# EAGLE library part ADSP_BF531 (library DAC)
ADSP BF531 Auto generated by make-symbol-device-package-bsdl.ulp Rev. 8 Source: 33170285923617ADSP_BF531_mbga.bsdl
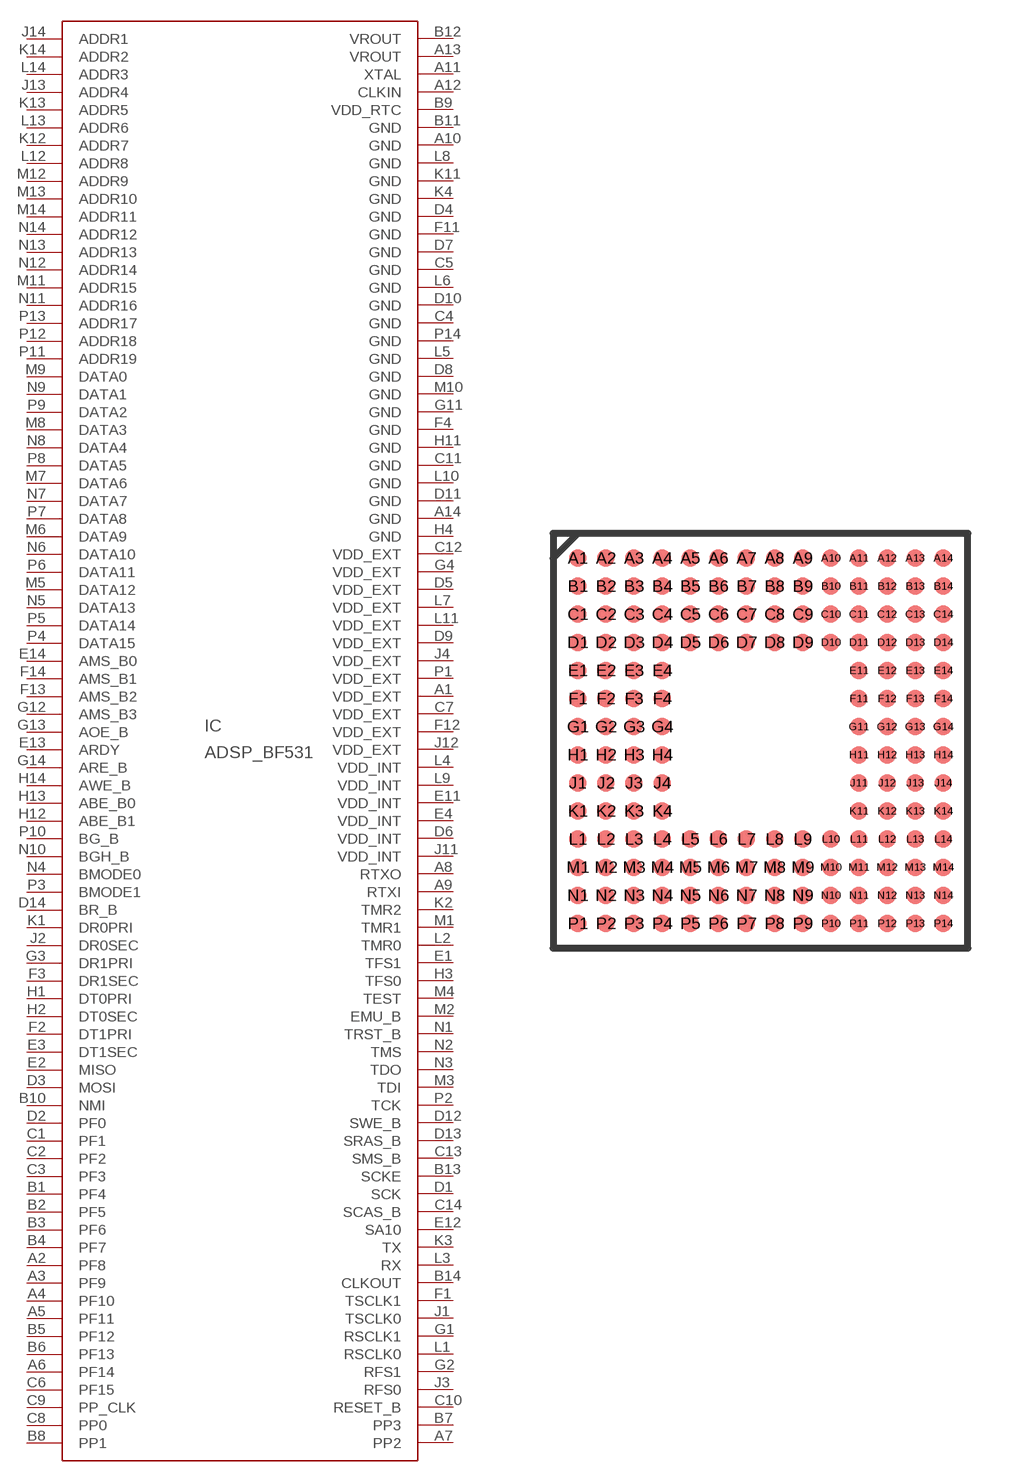
[diagram p29: symbol with the pads of MBGA_160; footprint MBGA_160]

Designator prefix IC

## ADSP_BF531 (OC_FARNELL: unknown; OC_NEWARK: unknown)  [MBGA_160]
A1  VDD_EXT  pwr
A2  PF8
A3  PF9
A4  PF10
A5  PF11
A6  PF14
A7  PP2
A8  RTXO  pwr
A9  RTXI  pwr
A10  GND  pwr
A11  XTAL  pwr
A12  CLKIN  pwr
A13  VROUT  pwr
A14  GND  pwr
B1  PF4
B2  PF5
B3  PF6
B4  PF7
B5  PF12
B6  PF13
B7  PP3
B8  PP1
B9  VDD_RTC  pwr
B10  NMI  in
B11  GND  pwr
B12  VROUT  pwr
B13  SCKE  out
B14  CLKOUT  out
C1  PF1
C2  PF2
C3  PF3
C4  GND  pwr
C5  GND  pwr
C6  PF15
C7  VDD_EXT  pwr
C8  PP0
C9  PP_CLK  in
C10  RESET_B  in
C11  GND  pwr
C12  VDD_EXT  pwr
C13  SMS_B  out
C14  SCAS_B  out
D1  SCK
D2  PF0
D3  MOSI
D4  GND  pwr
D5  VDD_EXT  pwr
D6  VDD_INT  pwr
D7  GND  pwr
D8  GND  pwr
D9  VDD_EXT  pwr
D10  GND  pwr
D11  GND  pwr
D12  SWE_B  out
D13  SRAS_B  out
D14  BR_B  in
E1  TFS1
E2  MISO
E3  DT1SEC  out
E4  VDD_INT  pwr
E11  VDD_INT  pwr
E12  SA10  out
E13  ARDY  in
E14  AMS_B0  out
F1  TSCLK1
F2  DT1PRI  out
F3  DR1SEC  in
F4  GND  pwr
F11  GND  pwr
F12  VDD_EXT  pwr
F13  AMS_B2  out
F14  AMS_B1  out
G1  RSCLK1
G2  RFS1
G3  DR1PRI  in
G4  VDD_EXT  pwr
G11  GND  pwr
G12  AMS_B3  out
G13  AOE_B  out
G14  ARE_B  out
H1  DT0PRI  out
H2  DT0SEC  out
H3  TFS0
H4  GND  pwr
H11  GND  pwr
H12  ABE_B1  out
H13  ABE_B0  out
H14  AWE_B  out
J1  TSCLK0
J2  DR0SEC  in
J3  RFS0
J4  VDD_EXT  pwr
J11  VDD_INT  pwr
J12  VDD_EXT  pwr
J13  ADDR4  out
J14  ADDR1  out
K1  DR0PRI  in
K2  TMR2
K3  TX  hiz
K4  GND  pwr
K11  GND  pwr
K12  ADDR7  out
K13  ADDR5  out
K14  ADDR2  out
L1  RSCLK0
L2  TMR0
L3  RX  in
L4  VDD_INT  pwr
L5  GND  pwr
L6  GND  pwr
L7  VDD_EXT  pwr
L8  GND  pwr
L9  VDD_INT  pwr
L10  GND  pwr
L11  VDD_EXT  pwr
L12  ADDR8  out
L13  ADDR6  out
L14  ADDR3  out
M1  TMR1
M2  EMU_B  pwr
M3  TDI  in
M4  TEST  in
M5  DATA12
M6  DATA9
M7  DATA6
M8  DATA3
M9  DATA0
M10  GND  pwr
M11  ADDR15  out
M12  ADDR9  out
M13  ADDR10  out
M14  ADDR11  out
N1  TRST_B  in
N2  TMS  in
N3  TDO  out
N4  BMODE0  in
N5  DATA13
N6  DATA10
N7  DATA7
N8  DATA4
N9  DATA1
N10  BGH_B  hiz
N11  ADDR16  out
N12  ADDR14  out
N13  ADDR13  out
N14  ADDR12  out
P1  VDD_EXT  pwr
P2  TCK  in
P3  BMODE1  in
P4  DATA15
P5  DATA14
P6  DATA11
P7  DATA8
P8  DATA5
P9  DATA2
P10  BG_B  hiz
P11  ADDR19  out
P12  ADDR18  out
P13  ADDR17  out
P14  GND  pwr

## Footprint MBGA_160 (pad centres in mm)
MBGA 160 Auto generated by make-symbol-device-package-bsdl.ulp Rev. 8 Source: 33170285923617ADSP_BF531_mbga.bsdl
smd 0.5 x 0.5: A1 -5.2,5.2; A2 -4.4,5.2; A3 -3.6,5.2; A4 -2.8,5.2; A5 -2,5.2; A6 -1.2,5.2; A7 -0.4,5.2; A8 0.4,5.2; A9 1.2,5.2; A10 2,5.2; A11 2.8,5.2; A12 3.6,5.2; A13 4.4,5.2; A14 5.2,5.2; B1 -5.2,4.4; B2 -4.4,4.4; B3 -3.6,4.4; B4 -2.8,4.4; B5 -2,4.4; B6 -1.2,4.4; B7 -0.4,4.4; B8 0.4,4.4; B9 1.2,4.4; B10 2,4.4; B11 2.8,4.4; B12 3.6,4.4; B13 4.4,4.4; B14 5.2,4.4; C1 -5.2,3.6; C2 -4.4,3.6; C3 -3.6,3.6; C4 -2.8,3.6; C5 -2,3.6; C6 -1.2,3.6; C7 -0.4,3.6; C8 0.4,3.6; C9 1.2,3.6; C10 2,3.6; C11 2.8,3.6; C12 3.6,3.6; C13 4.4,3.6; C14 5.2,3.6; D1 -5.2,2.8; D2 -4.4,2.8; D3 -3.6,2.8; D4 -2.8,2.8; D5 -2,2.8; D6 -1.2,2.8; D7 -0.4,2.8; D8 0.4,2.8; D9 1.2,2.8; D10 2,2.8; D11 2.8,2.8; D12 3.6,2.8; D13 4.4,2.8; D14 5.2,2.8; E1 -5.2,2; E2 -4.4,2; E3 -3.6,2; E4 -2.8,2; E11 2.8,2; E12 3.6,2; E13 4.4,2; E14 5.2,2; F1 -5.2,1.2; F2 -4.4,1.2; F3 -3.6,1.2; F4 -2.8,1.2; F11 2.8,1.2; F12 3.6,1.2; F13 4.4,1.2; F14 5.2,1.2; G1 -5.2,0.4; G2 -4.4,0.4; G3 -3.6,0.4; G4 -2.8,0.4; G11 2.8,0.4; G12 3.6,0.4; G13 4.4,0.4; G14 5.2,0.4; H1 -5.2,-0.4; H2 -4.4,-0.4; H3 -3.6,-0.4; H4 -2.8,-0.4; H11 2.8,-0.4; H12 3.6,-0.4; H13 4.4,-0.4; H14 5.2,-0.4; J1 -5.2,-1.2; J2 -4.4,-1.2; J3 -3.6,-1.2; J4 -2.8,-1.2; J11 2.8,-1.2; J12 3.6,-1.2; J13 4.4,-1.2; J14 5.2,-1.2; K1 -5.2,-2; K2 -4.4,-2; K3 -3.6,-2; K4 -2.8,-2; K11 2.8,-2; K12 3.6,-2; K13 4.4,-2; K14 5.2,-2; L1 -5.2,-2.8; L2 -4.4,-2.8; L3 -3.6,-2.8; L4 -2.8,-2.8; L5 -2,-2.8; L6 -1.2,-2.8; L7 -0.4,-2.8; L8 0.4,-2.8; L9 1.2,-2.8; L10 2,-2.8; L11 2.8,-2.8; L12 3.6,-2.8; L13 4.4,-2.8; L14 5.2,-2.8; M1 -5.2,-3.6; M2 -4.4,-3.6; M3 -3.6,-3.6; M4 -2.8,-3.6; M5 -2,-3.6; M6 -1.2,-3.6; M7 -0.4,-3.6; M8 0.4,-3.6; M9 1.2,-3.6; M10 2,-3.6; M11 2.8,-3.6; M12 3.6,-3.6; M13 4.4,-3.6; M14 5.2,-3.6; N1 -5.2,-4.4; N2 -4.4,-4.4; N3 -3.6,-4.4; N4 -2.8,-4.4; N5 -2,-4.4; N6 -1.2,-4.4; N7 -0.4,-4.4; N8 0.4,-4.4; N9 1.2,-4.4; N10 2,-4.4; N11 2.8,-4.4; N12 3.6,-4.4; N13 4.4,-4.4; N14 5.2,-4.4; P1 -5.2,-5.2; P2 -4.4,-5.2; P3 -3.6,-5.2; P4 -2.8,-5.2; P5 -2,-5.2; P6 -1.2,-5.2; P7 -0.4,-5.2; P8 0.4,-5.2; P9 1.2,-5.2; P10 2,-5.2; P11 2.8,-5.2; P12 3.6,-5.2; P13 4.4,-5.2; P14 5.2,-5.2